# EAGLE library part XC7A50T-2CPG236I (library XC7A50T-2CPG236I)
FPGA Artix-7 Family 52160 Cells 28nm Technology 1V 236-Pin CSBGA Check availability <https://pricing.snapeda.com/parts/XC7A50T-2CPG236I/Xilinx%20Inc./view-part?ref=eda>
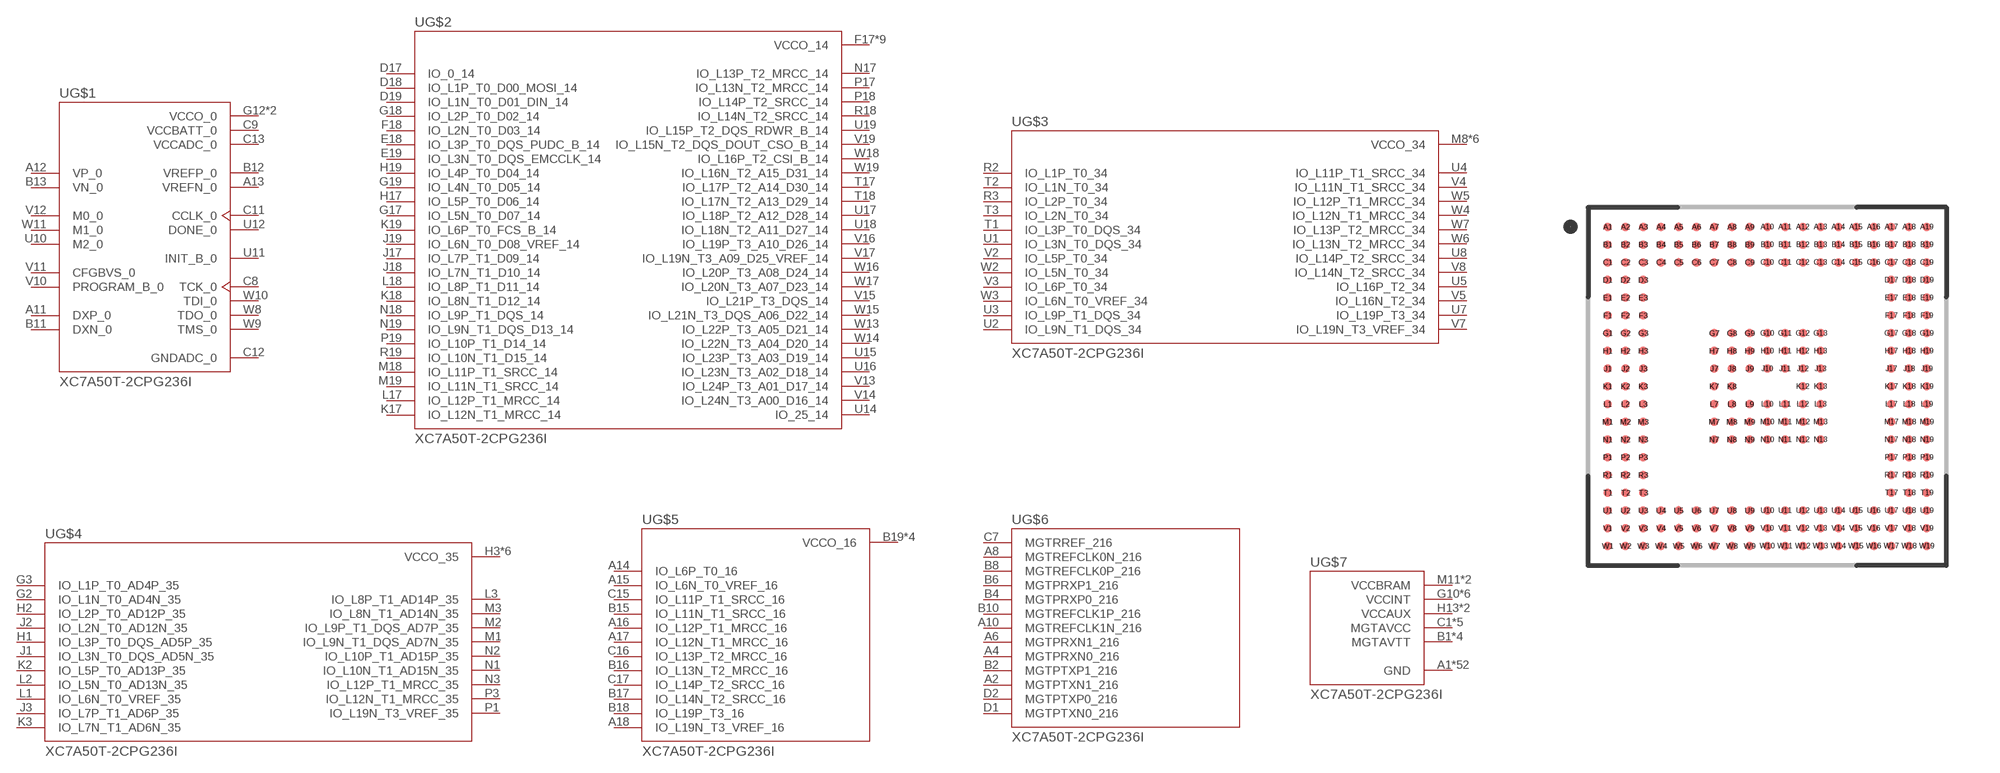
[diagram p0: symbol with the pads of BGA236C50P19X19_1000X1000X138N; footprint BGA236C50P19X19_1000X1000X138N]

Designator prefix U; gates G$1=XC7A50T-2CPG236I_SECTION1 G$2=XC7A50T-2CPG236I_SECTION2 G$3=XC7A50T-2CPG236I_SECTION3 G$4=XC7A50T-2CPG236I_SECTION4 G$5=XC7A50T-2CPG236I_SECTION5 G$6=XC7A50T-2CPG236I_SECTION6 G$7=XC7A50T-2CPG236I_SECTION7

## XC7A50T-2CPG236I (Availability: In Stock; Check_prices: https://www.snapeda.com/parts/XC7A50T-2CPG236I/Xilinx+Inc./view-part/?ref=eda; Description: Artix-7 Field Programmable Gate Array (FPGA) IC 106 2764800 52160 238-LFBGA, CSPBGA; MF: Xilinx Inc.; MP: XC7A50T-2CPG236I; Package: CSBGA-236 Xilinx; Price: None; SnapEDA_Link: https://www.snapeda.com/parts/XC7A50T-2CPG236I/Xilinx+Inc./view-part/?ref=snap)  [BGA236C50P19X19_1000X1000X138N]
A1  G$7:GND  pwr
A2  G$6:MGTPTXN1_216
A3  G$7:GND  pwr
A4  G$6:MGTPRXN0_216
A5  G$7:GND  pwr
A6  G$6:MGTPRXN1_216
A7  G$7:GND  pwr
A8  G$6:MGTREFCLK0N_216
A9  G$7:GND  pwr
A10  G$6:MGTREFCLK1N_216
A11  G$1:DXP_0
A12  G$1:VP_0  in
A13  G$1:VREFN_0
A14  G$5:IO_L6P_T0_16
A15  G$5:IO_L6N_T0_VREF_16
A16  G$5:IO_L12P_T1_MRCC_16
A17  G$5:IO_L12N_T1_MRCC_16
A18  G$5:IO_L19N_T3_VREF_16
A19  G$7:GND  pwr
B1  G$7:MGTAVTT  pwr
B2  G$6:MGTPTXP1_216
B3  G$7:GND  pwr
B4  G$6:MGTPRXP0_216
B5  G$7:GND  pwr
B6  G$6:MGTPRXP1_216
B7  G$7:GND  pwr
B8  G$6:MGTREFCLK0P_216
B9  G$7:GND  pwr
B10  G$6:MGTREFCLK1P_216
B11  G$1:DXN_0
B12  G$1:VREFP_0
B13  G$1:VN_0  in
B14  G$7:GND  pwr
B15  G$5:IO_L11N_T1_SRCC_16
B16  G$5:IO_L13N_T2_MRCC_16
B17  G$5:IO_L14N_T2_SRCC_16
B18  G$5:IO_L19P_T3_16
B19  G$5:VCCO_16  pwr
C1  G$7:MGTAVCC  pwr
C2  G$7:GND  pwr
C3  G$7:GND  pwr
C4  G$7:GND  pwr
C5  G$7:MGTAVTT  pwr
C6  G$7:GND  pwr
C7  G$6:MGTRREF_216
C8  G$1:TCK_0  in
C9  G$1:VCCBATT_0  pwr
C10  G$7:GND  pwr
C11  G$1:CCLK_0
C12  G$1:GNDADC_0  pwr
C13  G$1:VCCADC_0  pwr
C14  G$5:VCCO_16  pwr
C15  G$5:IO_L11P_T1_SRCC_16
C16  G$5:IO_L13P_T2_MRCC_16
C17  G$5:IO_L14P_T2_SRCC_16
C18  G$5:VCCO_16  pwr
C19  G$7:GND  pwr
D1  G$6:MGTPTXN0_216
D2  G$6:MGTPTXP0_216
D3  G$7:GND  pwr
D17  G$2:IO_0_14
D18  G$2:IO_L1P_T0_D00_MOSI_14
D19  G$2:IO_L1N_T0_D01_DIN_14
E1  G$7:MGTAVCC  pwr
E2  G$7:MGTAVTT  pwr
E3  G$7:GND  pwr
E17  G$7:GND  pwr
E18  G$2:IO_L3P_T0_DQS_PUDC_B_14
E19  G$2:IO_L3N_T0_DQS_EMCCLK_14
F1  G$7:GND  pwr
F2  G$7:GND  pwr
F3  G$7:MGTAVCC  pwr
F17  G$2:VCCO_14  pwr
F18  G$2:IO_L2N_T0_D03_14
F19  G$7:GND  pwr
G1  G$7:GND  pwr
G2  G$4:IO_L1N_T0_AD4N_35
G3  G$4:IO_L1P_T0_AD4P_35
G7  G$7:MGTAVTT  pwr
G8  G$7:GND  pwr
G9  G$7:MGTAVCC  pwr
G10  G$7:VCCINT  pwr
G11  G$7:GND  pwr
G12  G$1:VCCO_0  pwr
G13  G$5:VCCO_16  pwr
G17  G$2:IO_L5N_T0_D07_14
G18  G$2:IO_L2P_T0_D02_14
G19  G$2:IO_L4N_T0_D05_14
H1  G$4:IO_L3P_T0_DQS_AD5P_35
H2  G$4:IO_L2P_T0_AD12P_35
H3  G$4:VCCO_35  pwr
H7  G$7:GND  pwr
H8  G$7:GND  pwr
H9  G$7:MGTAVCC  pwr
H10  G$7:VCCINT  pwr
H11  G$7:GND  pwr
H12  G$7:GND  pwr
H13  G$7:VCCAUX  pwr
H17  G$2:IO_L5P_T0_D06_14
H18  G$7:GND  pwr
H19  G$2:IO_L4P_T0_D04_14
J1  G$4:IO_L3N_T0_DQS_AD5N_35
J2  G$4:IO_L2N_T0_AD12N_35
J3  G$4:IO_L7P_T1_AD6P_35
J7  G$4:VCCO_35  pwr
J8  G$7:GND  pwr
J9  G$7:GND  pwr
J10  G$7:VCCINT  pwr
J11  G$7:GND  pwr
J12  G$7:GND  pwr
J13  G$7:VCCAUX  pwr
J17  G$2:IO_L7P_T1_D09_14
J18  G$2:IO_L7N_T1_D10_14
J19  G$2:IO_L6N_T0_D08_VREF_14
K1  G$4:VCCO_35  pwr
K2  G$4:IO_L5P_T0_AD13P_35
K3  G$4:IO_L7N_T1_AD6N_35
K7  G$4:VCCO_35  pwr
K8  G$7:GND  pwr
K12  G$2:VCCO_14  pwr
K13  G$2:VCCO_14  pwr
K17  G$2:IO_L12N_T1_MRCC_14
K18  G$2:IO_L8N_T1_D12_14
K19  G$2:IO_L6P_T0_FCS_B_14
L1  G$4:IO_L6N_T0_VREF_35
L2  G$4:IO_L5N_T0_AD13N_35
L3  G$4:IO_L8P_T1_AD14P_35
L7  G$4:VCCO_35  pwr
L8  G$7:GND  pwr
L9  G$7:GND  pwr
L10  G$7:VCCINT  pwr
L11  G$7:GND  pwr
L12  G$2:VCCO_14  pwr
L13  G$2:VCCO_14  pwr
L17  G$2:IO_L12P_T1_MRCC_14
L18  G$2:IO_L8P_T1_D11_14
L19  G$7:GND  pwr
M1  G$4:IO_L9N_T1_DQS_AD7N_35
M2  G$4:IO_L9P_T1_DQS_AD7P_35
M3  G$4:IO_L8N_T1_AD14N_35
M7  G$4:VCCO_35  pwr
M8  G$3:VCCO_34  pwr
M9  G$7:GND  pwr
M10  G$7:VCCINT  pwr
M11  G$7:VCCBRAM  pwr
M12  G$2:VCCO_14  pwr
M13  G$7:GND  pwr
M17  G$2:VCCO_14  pwr
M18  G$2:IO_L11P_T1_SRCC_14
M19  G$2:IO_L11N_T1_SRCC_14
N1  G$4:IO_L10N_T1_AD15N_35
N2  G$4:IO_L10P_T1_AD15P_35
N3  G$4:IO_L12P_T1_MRCC_35
N7  G$3:VCCO_34  pwr
N8  G$3:VCCO_34  pwr
N9  G$7:GND  pwr
N10  G$7:VCCINT  pwr
N11  G$7:VCCBRAM  pwr
N12  G$7:GND  pwr
N13  G$7:GND  pwr
N17  G$2:IO_L13P_T2_MRCC_14
N18  G$2:IO_L9P_T1_DQS_14
N19  G$2:IO_L9N_T1_DQS_D13_14
P1  G$4:IO_L19N_T3_VREF_35
P2  G$7:GND  pwr
P3  G$4:IO_L12N_T1_MRCC_35
P17  G$2:IO_L13N_T2_MRCC_14
P18  G$2:IO_L14P_T2_SRCC_14
P19  G$2:IO_L10P_T1_D14_14
R1  G$3:VCCO_34  pwr
R2  G$3:IO_L1P_T0_34
R3  G$3:IO_L2P_T0_34
R17  G$2:VCCO_14  pwr
R18  G$2:IO_L14N_T2_SRCC_14
R19  G$2:IO_L10N_T1_D15_14
T1  G$3:IO_L3P_T0_DQS_34
T2  G$3:IO_L1N_T0_34
T3  G$3:IO_L2N_T0_34
T17  G$2:IO_L17P_T2_A14_D30_14
T18  G$2:IO_L17N_T2_A13_D29_14
T19  G$7:GND  pwr
U1  G$3:IO_L3N_T0_DQS_34
U2  G$3:IO_L9N_T1_DQS_34
U3  G$3:IO_L9P_T1_DQS_34
U4  G$3:IO_L11P_T1_SRCC_34
U5  G$3:IO_L16P_T2_34
U6  G$7:GND  pwr
U7  G$3:IO_L19P_T3_34
U8  G$3:IO_L14P_T2_SRCC_34
U9  G$7:GND  pwr
U10  G$1:M2_0  in
U11  G$1:INIT_B_0
U12  G$1:DONE_0
U13  G$2:VCCO_14  pwr
U14  G$2:IO_25_14
U15  G$2:IO_L23P_T3_A03_D19_14
U16  G$2:IO_L23N_T3_A02_D18_14
U17  G$2:IO_L18P_T2_A12_D28_14
U18  G$2:IO_L18N_T2_A11_D27_14
U19  G$2:IO_L15P_T2_DQS_RDWR_B_14
V1  G$3:VCCO_34  pwr
V2  G$3:IO_L5P_T0_34
V3  G$3:IO_L6P_T0_34
V4  G$3:IO_L11N_T1_SRCC_34
V5  G$3:IO_L16N_T2_34
V6  G$3:VCCO_34  pwr
V7  G$3:IO_L19N_T3_VREF_34
V8  G$3:IO_L14N_T2_SRCC_34
V9  G$1:VCCO_0  pwr
V10  G$1:PROGRAM_B_0  in
V11  G$1:CFGBVS_0  in
V12  G$1:M0_0  in
V13  G$2:IO_L24P_T3_A01_D17_14
V14  G$2:IO_L24N_T3_A00_D16_14
V15  G$2:IO_L21P_T3_DQS_14
V16  G$2:IO_L19P_T3_A10_D26_14
V17  G$2:IO_L19N_T3_A09_D25_VREF_14
V18  G$7:GND  pwr
V19  G$2:IO_L15N_T2_DQS_DOUT_CSO_B_14
W1  G$7:GND  pwr
W2  G$3:IO_L5N_T0_34
W3  G$3:IO_L6N_T0_VREF_34
W4  G$3:IO_L12N_T1_MRCC_34
W5  G$3:IO_L12P_T1_MRCC_34
W6  G$3:IO_L13N_T2_MRCC_34
W7  G$3:IO_L13P_T2_MRCC_34
W8  G$1:TDO_0  out
W9  G$1:TMS_0  in
W10  G$1:TDI_0  in
W11  G$1:M1_0  in
W12  G$7:GND  pwr
W13  G$2:IO_L22P_T3_A05_D21_14
W14  G$2:IO_L22N_T3_A04_D20_14
W15  G$2:IO_L21N_T3_DQS_A06_D22_14
W16  G$2:IO_L20P_T3_A08_D24_14
W17  G$2:IO_L20N_T3_A07_D23_14
W18  G$2:IO_L16P_T2_CSI_B_14
W19  G$2:IO_L16N_T2_A15_D31_14

## Footprint BGA236C50P19X19_1000X1000X138N (pad centres in mm)
smd 0.24 x 0.24: A1 -4.5,4.5; A2 -4,4.5; A3 -3.5,4.5; A4 -3,4.5; A5 -2.5,4.5; A6 -2,4.5; A7 -1.5,4.5; A8 -1,4.5; A9 -0.5,4.5; A10 0,4.5; A11 0.5,4.5; A12 1,4.5; A13 1.5,4.5; A14 2,4.5; A15 2.5,4.5; A16 3,4.5; A17 3.5,4.5; A18 4,4.5; A19 4.5,4.5; B1 -4.5,4; B2 -4,4; B3 -3.5,4; B4 -3,4; B5 -2.5,4; B6 -2,4; B7 -1.5,4; B8 -1,4; B9 -0.5,4; B10 0,4; B11 0.5,4; B12 1,4; B13 1.5,4; B14 2,4; B15 2.5,4; B16 3,4; B17 3.5,4; B18 4,4; B19 4.5,4; C1 -4.5,3.5; C2 -4,3.5; C3 -3.5,3.5; C4 -3,3.5; C5 -2.5,3.5; C6 -2,3.5; C7 -1.5,3.5; C8 -1,3.5; C9 -0.5,3.5; C10 0,3.5; C11 0.5,3.5; C12 1,3.5; C13 1.5,3.5; C14 2,3.5; C15 2.5,3.5; C16 3,3.5; C17 3.5,3.5; C18 4,3.5; C19 4.5,3.5; D1 -4.5,3; D2 -4,3; D3 -3.5,3; D17 3.5,3; D18 4,3; D19 4.5,3; E1 -4.5,2.5; E2 -4,2.5; E3 -3.5,2.5; E17 3.5,2.5; E18 4,2.5; E19 4.5,2.5; F1 -4.5,2; F2 -4,2; F3 -3.5,2; F17 3.5,2; F18 4,2; F19 4.5,2; G1 -4.5,1.5; G2 -4,1.5; G3 -3.5,1.5; G7 -1.5,1.5; G8 -1,1.5; G9 -0.5,1.5; G10 0,1.5; G11 0.5,1.5; G12 1,1.5; G13 1.5,1.5; G17 3.5,1.5; G18 4,1.5; G19 4.5,1.5; H1 -4.5,1; H2 -4,1; H3 -3.5,1; H7 -1.5,1; H8 -1,1; H9 -0.5,1; H10 0,1; H11 0.5,1; H12 1,1; H13 1.5,1; H17 3.5,1; H18 4,1; H19 4.5,1; J1 -4.5,0.5; J2 -4,0.5; J3 -3.5,0.5; J7 -1.5,0.5; J8 -1,0.5; J9 -0.5,0.5; J10 0,0.5; J11 0.5,0.5; J12 1,0.5; J13 1.5,0.5; J17 3.5,0.5; J18 4,0.5; J19 4.5,0.5; K1 -4.5,0; K2 -4,0; K3 -3.5,0; K7 -1.5,0; K8 -1,0; K12 1,0; K13 1.5,0; K17 3.5,0; K18 4,0; K19 4.5,0; L1 -4.5,-0.5; L2 -4,-0.5; L3 -3.5,-0.5; L7 -1.5,-0.5; L8 -1,-0.5; L9 -0.5,-0.5; L10 0,-0.5; L11 0.5,-0.5; L12 1,-0.5; L13 1.5,-0.5; L17 3.5,-0.5; L18 4,-0.5; L19 4.5,-0.5; M1 -4.5,-1; M2 -4,-1; M3 -3.5,-1; M7 -1.5,-1; M8 -1,-1; M9 -0.5,-1; M10 0,-1; M11 0.5,-1; M12 1,-1; M13 1.5,-1; M17 3.5,-1; M18 4,-1; M19 4.5,-1; N1 -4.5,-1.5; N2 -4,-1.5; N3 -3.5,-1.5; N7 -1.5,-1.5; N8 -1,-1.5; N9 -0.5,-1.5; N10 0,-1.5; N11 0.5,-1.5; N12 1,-1.5; N13 1.5,-1.5; N17 3.5,-1.5; N18 4,-1.5; N19 4.5,-1.5; P1 -4.5,-2; P2 -4,-2; P3 -3.5,-2; P17 3.5,-2; P18 4,-2; P19 4.5,-2; R1 -4.5,-2.5; R2 -4,-2.5; R3 -3.5,-2.5; R17 3.5,-2.5; R18 4,-2.5; R19 4.5,-2.5; T1 -4.5,-3; T2 -4,-3; T3 -3.5,-3; T17 3.5,-3; T18 4,-3; T19 4.5,-3; U1 -4.5,-3.5; U2 -4,-3.5; U3 -3.5,-3.5; U4 -3,-3.5; U5 -2.5,-3.5; U6 -2,-3.5; U7 -1.5,-3.5; U8 -1,-3.5; U9 -0.5,-3.5; U10 0,-3.5; U11 0.5,-3.5; U12 1,-3.5; U13 1.5,-3.5; U14 2,-3.5; U15 2.5,-3.5; U16 3,-3.5; U17 3.5,-3.5; U18 4,-3.5; U19 4.5,-3.5; V1 -4.5,-4; V2 -4,-4; V3 -3.5,-4; V4 -3,-4; V5 -2.5,-4; V6 -2,-4; V7 -1.5,-4; V8 -1,-4; V9 -0.5,-4; V10 0,-4; V11 0.5,-4; V12 1,-4; V13 1.5,-4; V14 2,-4; V15 2.5,-4; V16 3,-4; V17 3.5,-4; V18 4,-4; V19 4.5,-4; W1 -4.5,-4.5; W2 -4,-4.5; W3 -3.5,-4.5; W4 -3,-4.5; W5 -2.5,-4.5; W6 -2,-4.5; W7 -1.5,-4.5; W8 -1,-4.5; W9 -0.5,-4.5; W10 0,-4.5; W11 0.5,-4.5; W12 1,-4.5; W13 1.5,-4.5; W14 2,-4.5; W15 2.5,-4.5; W16 3,-4.5; W17 3.5,-4.5; W18 4,-4.5; W19 4.5,-4.5